# EAGLE library part SOIC_BREAKOUT (library CANcape)
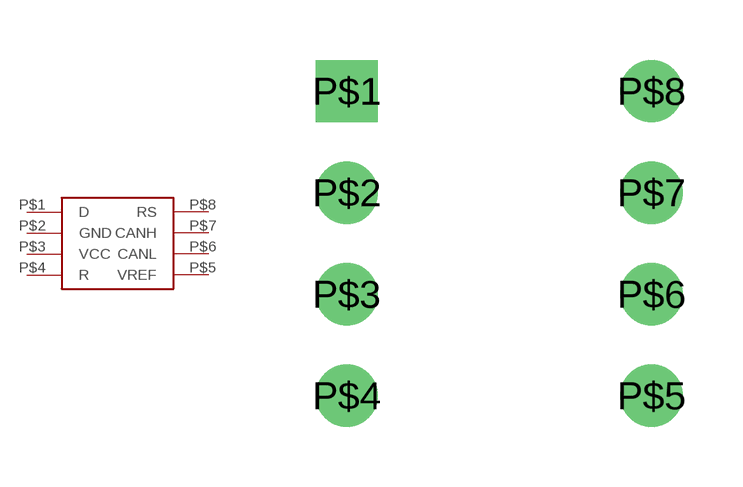
[diagram p3: symbol with the pads of SOIC_BREAKOUT; footprint SOIC_BREAKOUT]

Designator prefix -

## SOIC_BREAKOUT  [SOIC_BREAKOUT]
P$1  D
P$2  GND
P$3  VCC
P$4  R
P$5  VREF
P$6  CANL
P$7  CANH
P$8  RS

## Footprint SOIC_BREAKOUT (pad centres in mm)
drill 1.041 square: P$1 -3.81,3.81
drill 1.041: P$2 -3.81,1.27; P$3 -3.81,-1.27; P$4 -3.81,-3.81; P$5 3.81,-3.81; P$6 3.81,-1.27; P$7 3.81,1.27; P$8 3.81,3.81